# Altium footprint library QFP_Shrink_Rect_50P_Side_N.PcbLib: 15 footprints
Each footprint in its own frame and in the unit in brackets; x right, y up, seen from the top. Pads: shape width x height; smd on the part's side, far side on the other; paste and mask are expansions set on the pad; w line width, h text height; cw(c..) or ccw(c..) is an arc to the next point about the centre after c.
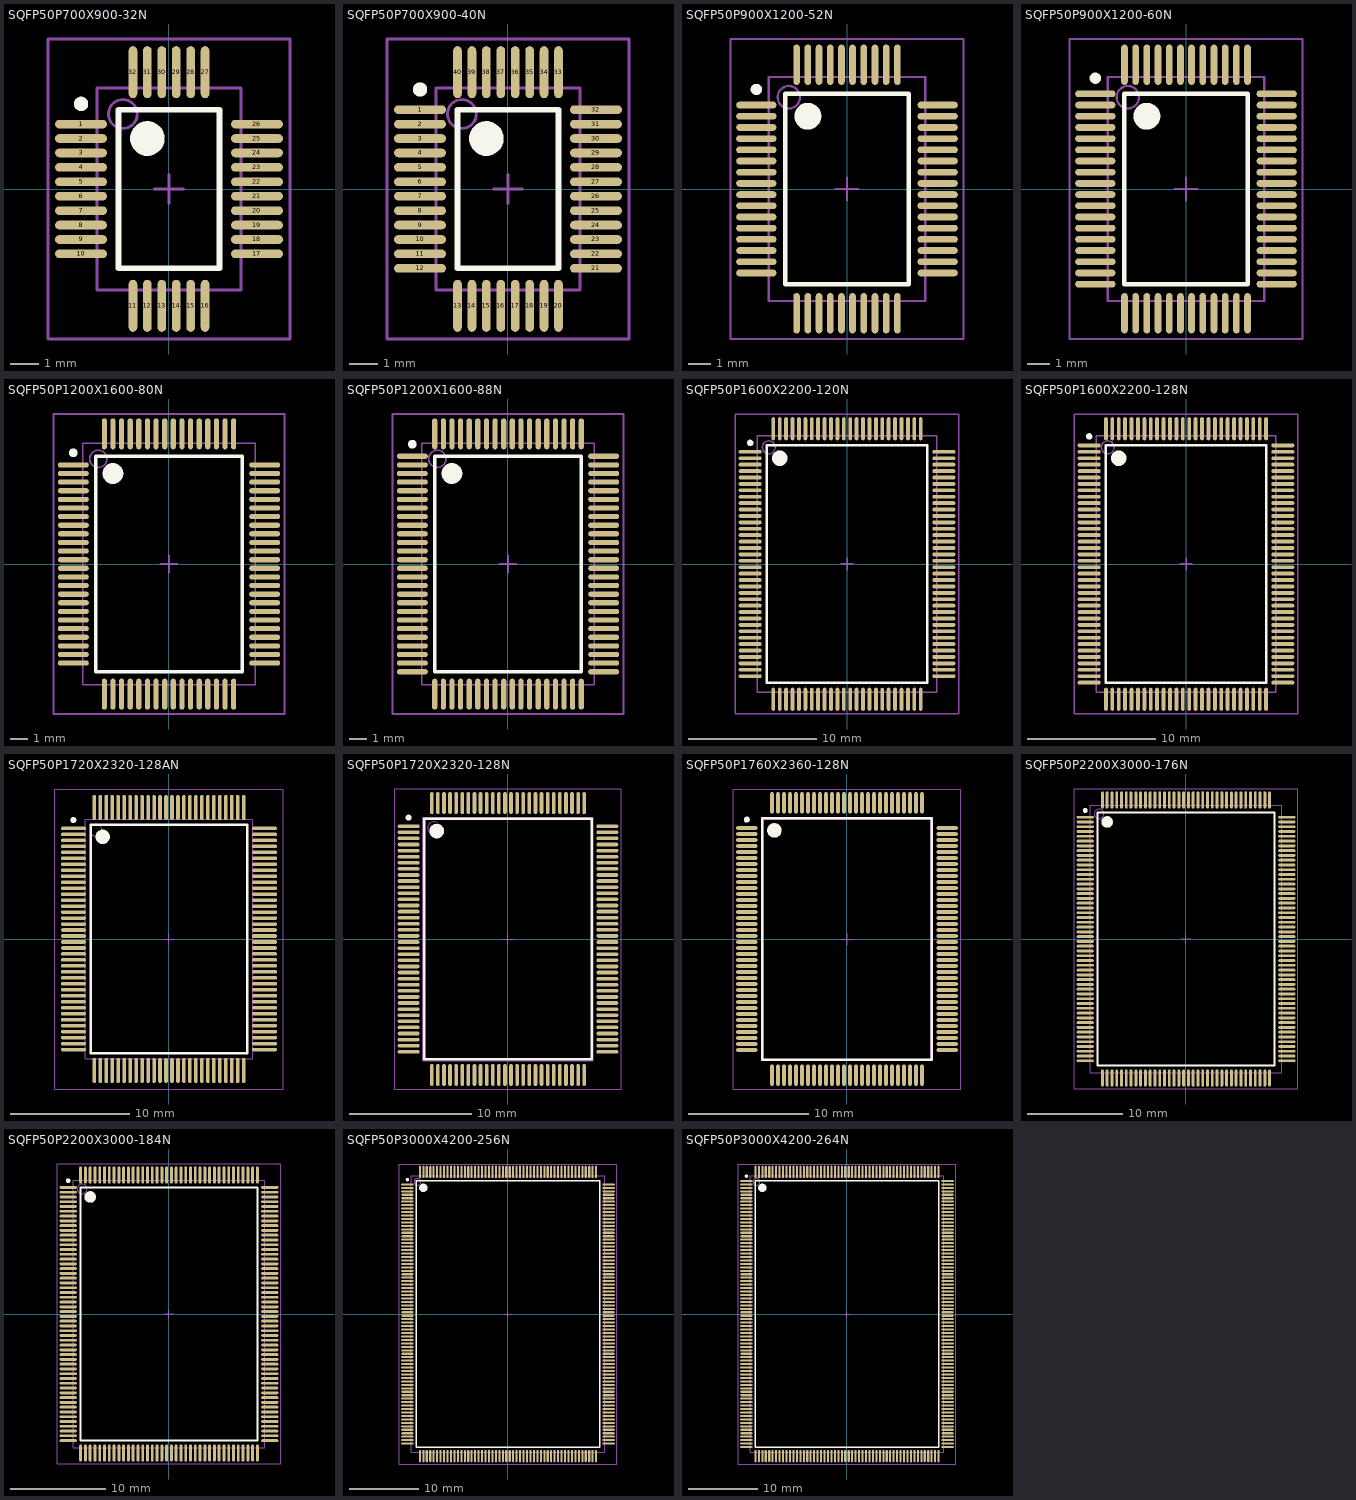
[diagram p0: the footprints below, top view; thin cyan lines are the x and y axes]

## SQFP50P700X900-32N [mm] "Shrink QFP, 32-Leads, Body 7x5 mm, Pitch 0.5mm, IPC Medium Density"
height 1.7
pads (32):
  oval 1.8x0.3 smd: 1(-3.05,2.25) 2(-3.05,1.75) 3(-3.05,1.25) 4(-3.05,0.75) 5(-3.05,0.25) 6(-3.05,-0.25) 7(-3.05,-0.75) 8(-3.05,-1.25) 9(-3.05,-1.75) 10(-3.05,-2.25) 17(3.05,-2.25) 18(3.05,-1.75) 19(3.05,-1.25) 20(3.05,-0.75) 21(3.05,-0.25) 22(3.05,0.25) 23(3.05,0.75) 24(3.05,1.25) 25(3.05,1.75) 26(3.05,2.25)
  oval 0.3x1.8 smd: 11(-1.25,-4.05) 12(-0.75,-4.05) 13(-0.25,-4.05) 14(0.25,-4.05) 15(0.75,-4.05) 16(1.25,-4.05) 27(1.25,4.05) 28(0.75,4.05) 29(0.25,4.05) 30(-0.25,4.05) 31(-0.75,4.05) 32(-1.25,4.05)
Top Overlay:
  circle w0.25: c-3.05,2.95 r0.125
  circle w0.6: c-0.75,1.75 r0.3
  lines w0.2: -1.75,-2.75 -1.75,2.75 1.75,2.75 1.75,-2.75 -1.75,-2.75
Mechanical 13:
  circle w0.1: c-1.6,2.6 r0.5
  lines w0.1: -2.5,-3.5 -2.5,3.5 2.5,3.5 2.5,-3.5 -2.5,-3.5
Mechanical 15:
  lines w0.1: -0.5,0 0.5,0 ; 0,-0.5 0,0.5 ; -4.2,-5.2 -4.2,5.2 4.2,5.2 4.2,-5.2 -4.2,-5.2
3D body: height 1.7, standoff 0, extent -2.5,-3.5 2.5,3.5

## SQFP50P700X900-40N [mm] "Shrink QFP, 40-Leads, Body 7x5 mm, Pitch 0.5mm, IPC Medium Density"
height 1.7
pads (40):
  oval 1.8x0.3 smd: 1(-3.05,2.75) 2(-3.05,2.25) 3(-3.05,1.75) 4(-3.05,1.25) 5(-3.05,0.75) 6(-3.05,0.25) 7(-3.05,-0.25) 8(-3.05,-0.75) 9(-3.05,-1.25) 10(-3.05,-1.75) 11(-3.05,-2.25) 12(-3.05,-2.75) 21(3.05,-2.75) 22(3.05,-2.25) 23(3.05,-1.75) 24(3.05,-1.25) 25(3.05,-0.75) 26(3.05,-0.25) 27(3.05,0.25) 28(3.05,0.75) 29(3.05,1.25) 30(3.05,1.75) 31(3.05,2.25) 32(3.05,2.75)
  oval 0.3x1.8 smd: 13(-1.75,-4.05) 14(-1.25,-4.05) 15(-0.75,-4.05) 16(-0.25,-4.05) 17(0.25,-4.05) 18(0.75,-4.05) 19(1.25,-4.05) 20(1.75,-4.05) 33(1.75,4.05) 34(1.25,4.05) 35(0.75,4.05) 36(0.25,4.05) 37(-0.25,4.05) 38(-0.75,4.05) 39(-1.25,4.05) 40(-1.75,4.05)
Top Overlay:
  circle w0.6: c-0.75,1.75 r0.3
  circle w0.25: c-3.05,3.45 r0.125
  lines w0.2: -1.75,-2.75 1.75,-2.75 1.75,2.75 -1.75,2.75 -1.75,-2.75
Mechanical 13:
  circle w0.1: c-1.6,2.6 r0.5
  lines w0.1: -2.5,-3.5 2.5,-3.5 2.5,3.5 -2.5,3.5 -2.5,-3.5
Mechanical 15:
  lines w0.1: -0.5,0 0.5,0 ; 0,-0.5 0,0.5 ; -4.2,-5.2 4.2,-5.2 4.2,5.2 -4.2,5.2 -4.2,-5.2
3D body: height 1.7, standoff 0, extent -2.5,-3.5 2.5,3.5

## SQFP50P900X1200-52N [mm] "Shrink QFP, 52-Leads, Body 10x7 mm, Pitch 0.5mm, IPC Medium Density"
height 2.2
pads (52):
  oval 1.8x0.3 smd: 1(-4.05,3.75) 2(-4.05,3.25) 3(-4.05,2.75) 4(-4.05,2.25) 5(-4.05,1.75) 6(-4.05,1.25) 7(-4.05,0.75) 8(-4.05,0.25) 9(-4.05,-0.25) 10(-4.05,-0.75) 11(-4.05,-1.25) 12(-4.05,-1.75) 13(-4.05,-2.25) 14(-4.05,-2.75) 15(-4.05,-3.25) 16(-4.05,-3.75) 27(4.05,-3.75) 28(4.05,-3.25) 29(4.05,-2.75) 30(4.05,-2.25) 31(4.05,-1.75) 32(4.05,-1.25) 33(4.05,-0.75) 34(4.05,-0.25) 35(4.05,0.25) 36(4.05,0.75) 37(4.05,1.25) 38(4.05,1.75) 39(4.05,2.25) 40(4.05,2.75) 41(4.05,3.25) 42(4.05,3.75)
  oval 0.3x1.8 smd: 17(-2.25,-5.55) 18(-1.75,-5.55) 19(-1.25,-5.55) 20(-0.75,-5.55) 21(-0.25,-5.55) 22(0.25,-5.55) 23(0.75,-5.55) 24(1.25,-5.55) 25(1.75,-5.55) 26(2.25,-5.55) 43(2.25,5.55) 44(1.75,5.55) 45(1.25,5.55) 46(0.75,5.55) 47(0.25,5.55) 48(-0.25,5.55) 49(-0.75,5.55) 50(-1.25,5.55) 51(-1.75,5.55) 52(-2.25,5.55)
Top Overlay:
  circle w0.6: c-1.75,3.25 r0.3
  circle w0.25: c-4.05,4.45 r0.125
  lines w0.2: -2.75,-4.25 2.75,-4.25 2.75,4.25 -2.75,4.25 -2.75,-4.25
Mechanical 13:
  circle w0.1: c-2.6,4.1 r0.5
  lines w0.1: -3.5,-5 3.5,-5 3.5,5 -3.5,5 -3.5,-5
Mechanical 15:
  lines w0.1: -0.5,0 0.5,0 ; 0,-0.5 0,0.5 ; -5.2,-6.7 5.2,-6.7 5.2,6.7 -5.2,6.7 -5.2,-6.7
3D body: height 2.2, standoff 0, extent -3.5,-5 3.5,5

## SQFP50P900X1200-60N [mm] "Shrink QFP, 60-Leads, Body 10x7 mm, Pitch 0.5mm, IPC Medium Density"
height 2.2
pads (60):
  oval 1.8x0.3 smd: 1(-4.05,4.25) 2(-4.05,3.75) 3(-4.05,3.25) 4(-4.05,2.75) 5(-4.05,2.25) 6(-4.05,1.75) 7(-4.05,1.25) 8(-4.05,0.75) 9(-4.05,0.25) 10(-4.05,-0.25) 11(-4.05,-0.75) 12(-4.05,-1.25) 13(-4.05,-1.75) 14(-4.05,-2.25) 15(-4.05,-2.75) 16(-4.05,-3.25) 17(-4.05,-3.75) 18(-4.05,-4.25) 31(4.05,-4.25) 32(4.05,-3.75) 33(4.05,-3.25) 34(4.05,-2.75) 35(4.05,-2.25) 36(4.05,-1.75) 37(4.05,-1.25) 38(4.05,-0.75) 39(4.05,-0.25) 40(4.05,0.25) 41(4.05,0.75) 42(4.05,1.25) 43(4.05,1.75) 44(4.05,2.25) 45(4.05,2.75) 46(4.05,3.25) 47(4.05,3.75) 48(4.05,4.25)
  oval 0.3x1.8 smd: 19(-2.75,-5.55) 20(-2.25,-5.55) 21(-1.75,-5.55) 22(-1.25,-5.55) 23(-0.75,-5.55) 24(-0.25,-5.55) 25(0.25,-5.55) 26(0.75,-5.55) 27(1.25,-5.55) 28(1.75,-5.55) 29(2.25,-5.55) 30(2.75,-5.55) 49(2.75,5.55) 50(2.25,5.55) 51(1.75,5.55) 52(1.25,5.55) 53(0.75,5.55) 54(0.25,5.55) 55(-0.25,5.55) 56(-0.75,5.55) 57(-1.25,5.55) 58(-1.75,5.55) 59(-2.25,5.55) 60(-2.75,5.55)
Top Overlay:
  circle w0.6: c-1.75,3.25 r0.3
  circle w0.25: c-4.05,4.95 r0.125
  lines w0.2: -2.75,-4.25 2.75,-4.25 2.75,4.25 -2.75,4.25 -2.75,-4.25
Mechanical 13:
  circle w0.1: c-2.6,4.1 r0.5
  lines w0.1: -3.5,-5 3.5,-5 3.5,5 -3.5,5 -3.5,-5
Mechanical 15:
  lines w0.1: -0.5,0 0.5,0 ; 0,-0.5 0,0.5 ; -5.2,-6.7 5.2,-6.7 5.2,6.7 -5.2,6.7 -5.2,-6.7
3D body: height 2.2, standoff 0, extent -3.5,-5 3.5,5

## SQFP50P1200X1600-80N [mm] "Shrink QFP, 80-Leads, Body 14x10 mm, Pitch 0.5mm, IPC Medium Density"
height 2.2
pads (80):
  oval 1.8x0.3 smd: 1(-5.55,5.75) 2(-5.55,5.25) 3(-5.55,4.75) 4(-5.55,4.25) 5(-5.55,3.75) 6(-5.55,3.25) 7(-5.55,2.75) 8(-5.55,2.25) 9(-5.55,1.75) 10(-5.55,1.25) 11(-5.55,0.75) 12(-5.55,0.25) 13(-5.55,-0.25) 14(-5.55,-0.75) 15(-5.55,-1.25) 16(-5.55,-1.75) 17(-5.55,-2.25) 18(-5.55,-2.75) 19(-5.55,-3.25) 20(-5.55,-3.75) 21(-5.55,-4.25) 22(-5.55,-4.75) 23(-5.55,-5.25) 24(-5.55,-5.75) 41(5.55,-5.75) 42(5.55,-5.25) 43(5.55,-4.75) 44(5.55,-4.25) 45(5.55,-3.75) 46(5.55,-3.25) 47(5.55,-2.75) 48(5.55,-2.25) 49(5.55,-1.75) 50(5.55,-1.25) 51(5.55,-0.75) 52(5.55,-0.25) 53(5.55,0.25) 54(5.55,0.75) 55(5.55,1.25) 56(5.55,1.75) 57(5.55,2.25) 58(5.55,2.75) 59(5.55,3.25) 60(5.55,3.75) 61(5.55,4.25) 62(5.55,4.75) 63(5.55,5.25) 64(5.55,5.75)
  oval 0.3x1.8 smd: 25(-3.75,-7.55) 26(-3.25,-7.55) 27(-2.75,-7.55) 28(-2.25,-7.55) 29(-1.75,-7.55) 30(-1.25,-7.55) 31(-0.75,-7.55) 32(-0.25,-7.55) 33(0.25,-7.55) 34(0.75,-7.55) 35(1.25,-7.55) 36(1.75,-7.55) 37(2.25,-7.55) 38(2.75,-7.55) 39(3.25,-7.55) 40(3.75,-7.55) 65(3.75,7.55) 66(3.25,7.55) 67(2.75,7.55) 68(2.25,7.55) 69(1.75,7.55) 70(1.25,7.55) 71(0.75,7.55) 72(0.25,7.55) 73(-0.25,7.55) 74(-0.75,7.55) 75(-1.25,7.55) 76(-1.75,7.55) 77(-2.25,7.55) 78(-2.75,7.55) 79(-3.25,7.55) 80(-3.75,7.55)
Top Overlay:
  circle w0.6: c-3.25,5.25 r0.3
  circle w0.25: c-5.55,6.45 r0.125
  lines w0.2: -4.25,-6.25 4.25,-6.25 4.25,6.25 -4.25,6.25 -4.25,-6.25
Mechanical 13:
  circle w0.1: c-4.1,6.1 r0.5
  lines w0.1: -5,-7 5,-7 5,7 -5,7 -5,-7
Mechanical 15:
  lines w0.1: -0.5,0 0.5,0 ; 0,-0.5 0,0.5 ; -6.7,-8.7 6.7,-8.7 6.7,8.7 -6.7,8.7 -6.7,-8.7
3D body: height 2.2, standoff 0, extent -5,-7 5,7

## SQFP50P1200X1600-88N [mm] "Shrink QFP, 88-Leads, Body 14x10 mm, Pitch 0.5mm, IPC Medium Density"
height 2.2
pads (88):
  oval 1.8x0.3 smd: 1(-5.55,6.25) 2(-5.55,5.75) 3(-5.55,5.25) 4(-5.55,4.75) 5(-5.55,4.25) 6(-5.55,3.75) 7(-5.55,3.25) 8(-5.55,2.75) 9(-5.55,2.25) 10(-5.55,1.75) 11(-5.55,1.25) 12(-5.55,0.75) 13(-5.55,0.25) 14(-5.55,-0.25) 15(-5.55,-0.75) 16(-5.55,-1.25) 17(-5.55,-1.75) 18(-5.55,-2.25) 19(-5.55,-2.75) 20(-5.55,-3.25) 21(-5.55,-3.75) 22(-5.55,-4.25) 23(-5.55,-4.75) 24(-5.55,-5.25) 25(-5.55,-5.75) 26(-5.55,-6.25) 45(5.55,-6.25) 46(5.55,-5.75) 47(5.55,-5.25) 48(5.55,-4.75) 49(5.55,-4.25) 50(5.55,-3.75) 51(5.55,-3.25) 52(5.55,-2.75) 53(5.55,-2.25) 54(5.55,-1.75) 55(5.55,-1.25) 56(5.55,-0.75) 57(5.55,-0.25) 58(5.55,0.25) 59(5.55,0.75) 60(5.55,1.25) 61(5.55,1.75) 62(5.55,2.25) 63(5.55,2.75) 64(5.55,3.25) 65(5.55,3.75) 66(5.55,4.25) 67(5.55,4.75) 68(5.55,5.25) 69(5.55,5.75) 70(5.55,6.25)
  oval 0.3x1.8 smd: 27(-4.25,-7.55) 28(-3.75,-7.55) 29(-3.25,-7.55) 30(-2.75,-7.55) 31(-2.25,-7.55) 32(-1.75,-7.55) 33(-1.25,-7.55) 34(-0.75,-7.55) 35(-0.25,-7.55) 36(0.25,-7.55) 37(0.75,-7.55) 38(1.25,-7.55) 39(1.75,-7.55) 40(2.25,-7.55) 41(2.75,-7.55) 42(3.25,-7.55) 43(3.75,-7.55) 44(4.25,-7.55) 71(4.25,7.55) 72(3.75,7.55) 73(3.25,7.55) 74(2.75,7.55) 75(2.25,7.55) 76(1.75,7.55) 77(1.25,7.55) 78(0.75,7.55) 79(0.25,7.55) 80(-0.25,7.55) 81(-0.75,7.55) 82(-1.25,7.55) 83(-1.75,7.55) 84(-2.25,7.55) 85(-2.75,7.55) 86(-3.25,7.55) 87(-3.75,7.55) 88(-4.25,7.55)
Top Overlay:
  circle w0.6: c-3.25,5.25 r0.3
  circle w0.25: c-5.55,6.95 r0.125
  lines w0.2: -4.25,-6.25 4.25,-6.25 4.25,6.25 -4.25,6.25 -4.25,-6.25
Mechanical 13:
  circle w0.1: c-4.1,6.1 r0.5
  lines w0.1: -5,-7 5,-7 5,7 -5,7 -5,-7
Mechanical 15:
  lines w0.1: -0.5,0 0.5,0 ; 0,-0.5 0,0.5 ; -6.7,-8.7 6.7,-8.7 6.7,8.7 -6.7,8.7 -6.7,-8.7
3D body: height 2.2, standoff 0, extent -5,-7 5,7

## SQFP50P1600X2200-120N [mm] "Shrink QFP, 120-Leads, Body 20x14 mm, Pitch 0.5mm, IPC Medium Density"
height 2.2
pads (120):
  oval 1.8x0.3 smd: 1(-7.55,8.75) 2(-7.55,8.25) 3(-7.55,7.75) 4(-7.55,7.25) 5(-7.55,6.75) 6(-7.55,6.25) 7(-7.55,5.75) 8(-7.55,5.25) 9(-7.55,4.75) 10(-7.55,4.25) 11(-7.55,3.75) 12(-7.55,3.25) 13(-7.55,2.75) 14(-7.55,2.25) 15(-7.55,1.75) 16(-7.55,1.25) 17(-7.55,0.75) 18(-7.55,0.25) 19(-7.55,-0.25) 20(-7.55,-0.75) 21(-7.55,-1.25) 22(-7.55,-1.75) 23(-7.55,-2.25) 24(-7.55,-2.75) 25(-7.55,-3.25) 26(-7.55,-3.75) 27(-7.55,-4.25) 28(-7.55,-4.75) 29(-7.55,-5.25) 30(-7.55,-5.75) 31(-7.55,-6.25) 32(-7.55,-6.75) 33(-7.55,-7.25) 34(-7.55,-7.75) 35(-7.55,-8.25) 36(-7.55,-8.75) 61(7.55,-8.75) 62(7.55,-8.25) 63(7.55,-7.75) 64(7.55,-7.25) 65(7.55,-6.75) 66(7.55,-6.25) 67(7.55,-5.75) 68(7.55,-5.25) 69(7.55,-4.75) 70(7.55,-4.25) 71(7.55,-3.75) 72(7.55,-3.25) 73(7.55,-2.75) 74(7.55,-2.25) 75(7.55,-1.75) 76(7.55,-1.25) 77(7.55,-0.75) 78(7.55,-0.25) 79(7.55,0.25) 80(7.55,0.75) 81(7.55,1.25) 82(7.55,1.75) 83(7.55,2.25) 84(7.55,2.75) 85(7.55,3.25) 86(7.55,3.75) 87(7.55,4.25) 88(7.55,4.75) 89(7.55,5.25) 90(7.55,5.75) 91(7.55,6.25) 92(7.55,6.75) 93(7.55,7.25) 94(7.55,7.75) 95(7.55,8.25) 96(7.55,8.75)
  oval 0.3x1.8 smd: 37(-5.75,-10.55) 38(-5.25,-10.55) 39(-4.75,-10.55) 40(-4.25,-10.55) 41(-3.75,-10.55) 42(-3.25,-10.55) 43(-2.75,-10.55) 44(-2.25,-10.55) 45(-1.75,-10.55) 46(-1.25,-10.55) 47(-0.75,-10.55) 48(-0.25,-10.55) 49(0.25,-10.55) 50(0.75,-10.55) 51(1.25,-10.55) 52(1.75,-10.55) 53(2.25,-10.55) 54(2.75,-10.55) 55(3.25,-10.55) 56(3.75,-10.55) 57(4.25,-10.55) 58(4.75,-10.55) 59(5.25,-10.55) 60(5.75,-10.55) 97(5.75,10.55) 98(5.25,10.55) 99(4.75,10.55) 100(4.25,10.55) 101(3.75,10.55) 102(3.25,10.55) 103(2.75,10.55) 104(2.25,10.55) 105(1.75,10.55) 106(1.25,10.55) 107(0.75,10.55) 108(0.25,10.55) 109(-0.25,10.55) 110(-0.75,10.55) 111(-1.25,10.55) 112(-1.75,10.55) 113(-2.25,10.55) 114(-2.75,10.55) 115(-3.25,10.55) 116(-3.75,10.55) 117(-4.25,10.55) 118(-4.75,10.55) 119(-5.25,10.55) 120(-5.75,10.55)
Top Overlay:
  circle w0.6: c-5.25,8.25 r0.3
  circle w0.25: c-7.55,9.45 r0.125
  lines w0.2: -6.25,-9.25 6.25,-9.25 6.25,9.25 -6.25,9.25 -6.25,-9.25
Mechanical 13:
  circle w0.1: c-6.1,9.1 r0.5
  lines w0.1: -7,-10 7,-10 7,10 -7,10 -7,-10
Mechanical 15:
  lines w0.1: -0.5,0 0.5,0 ; 0,-0.5 0,0.5 ; -8.7,-11.7 8.7,-11.7 8.7,11.7 -8.7,11.7 -8.7,-11.7
3D body: height 2.2, standoff 0, extent -7,-10 7,10

## SQFP50P1600X2200-128N [mm] "Shrink QFP, 128-Leads, Body 20x14 mm, Pitch 0.5mm, IPC Medium Density"
height 2.2
pads (128):
  oval 1.8x0.3 smd: 1(-7.55,9.25) 2(-7.55,8.75) 3(-7.55,8.25) 4(-7.55,7.75) 5(-7.55,7.25) 6(-7.55,6.75) 7(-7.55,6.25) 8(-7.55,5.75) 9(-7.55,5.25) 10(-7.55,4.75) 11(-7.55,4.25) 12(-7.55,3.75) 13(-7.55,3.25) 14(-7.55,2.75) 15(-7.55,2.25) 16(-7.55,1.75) 17(-7.55,1.25) 18(-7.55,0.75) 19(-7.55,0.25) 20(-7.55,-0.25) 21(-7.55,-0.75) 22(-7.55,-1.25) 23(-7.55,-1.75) 24(-7.55,-2.25) 25(-7.55,-2.75) 26(-7.55,-3.25) 27(-7.55,-3.75) 28(-7.55,-4.25) 29(-7.55,-4.75) 30(-7.55,-5.25) 31(-7.55,-5.75) 32(-7.55,-6.25) 33(-7.55,-6.75) 34(-7.55,-7.25) 35(-7.55,-7.75) 36(-7.55,-8.25) 37(-7.55,-8.75) 38(-7.55,-9.25) 65(7.55,-9.25) 66(7.55,-8.75) 67(7.55,-8.25) 68(7.55,-7.75) 69(7.55,-7.25) 70(7.55,-6.75) 71(7.55,-6.25) 72(7.55,-5.75) 73(7.55,-5.25) 74(7.55,-4.75) 75(7.55,-4.25) 76(7.55,-3.75) 77(7.55,-3.25) 78(7.55,-2.75) 79(7.55,-2.25) 80(7.55,-1.75) 81(7.55,-1.25) 82(7.55,-0.75) 83(7.55,-0.25) 84(7.55,0.25) 85(7.55,0.75) 86(7.55,1.25) 87(7.55,1.75) 88(7.55,2.25) 89(7.55,2.75) 90(7.55,3.25) 91(7.55,3.75) 92(7.55,4.25) 93(7.55,4.75) 94(7.55,5.25) 95(7.55,5.75) 96(7.55,6.25) 97(7.55,6.75) 98(7.55,7.25) 99(7.55,7.75) 100(7.55,8.25) 101(7.55,8.75) 102(7.55,9.25)
  oval 0.3x1.8 smd: 39(-6.25,-10.55) 40(-5.75,-10.55) 41(-5.25,-10.55) 42(-4.75,-10.55) 43(-4.25,-10.55) 44(-3.75,-10.55) 45(-3.25,-10.55) 46(-2.75,-10.55) 47(-2.25,-10.55) 48(-1.75,-10.55) 49(-1.25,-10.55) 50(-0.75,-10.55) 51(-0.25,-10.55) 52(0.25,-10.55) 53(0.75,-10.55) 54(1.25,-10.55) 55(1.75,-10.55) 56(2.25,-10.55) 57(2.75,-10.55) 58(3.25,-10.55) 59(3.75,-10.55) 60(4.25,-10.55) 61(4.75,-10.55) 62(5.25,-10.55) 63(5.75,-10.55) 64(6.25,-10.55) 103(6.25,10.55) 104(5.75,10.55) 105(5.25,10.55) 106(4.75,10.55) 107(4.25,10.55) 108(3.75,10.55) 109(3.25,10.55) 110(2.75,10.55) 111(2.25,10.55) 112(1.75,10.55) 113(1.25,10.55) 114(0.75,10.55) 115(0.25,10.55) 116(-0.25,10.55) 117(-0.75,10.55) 118(-1.25,10.55) 119(-1.75,10.55) 120(-2.25,10.55) 121(-2.75,10.55) 122(-3.25,10.55) 123(-3.75,10.55) 124(-4.25,10.55) 125(-4.75,10.55) 126(-5.25,10.55) 127(-5.75,10.55) 128(-6.25,10.55)
Top Overlay:
  circle w0.6: c-5.25,8.25 r0.3
  circle w0.25: c-7.55,9.95 r0.125
  lines w0.2: -6.25,-9.25 6.25,-9.25 6.25,9.25 -6.25,9.25 -6.25,-9.25
Mechanical 13:
  circle w0.1: c-6.1,9.1 r0.5
  lines w0.1: -7,-10 7,-10 7,10 -7,10 -7,-10
Mechanical 15:
  lines w0.1: -0.5,0 0.5,0 ; 0,-0.5 0,0.5 ; -8.7,-11.7 8.7,-11.7 8.7,11.7 -8.7,11.7 -8.7,-11.7
3D body: height 2.2, standoff 0, extent -7,-10 7,10

## SQFP50P1720X2320-128AN [mm] "Shrink QFP, 128-Leads, Body 20x14 mm, Pitch 0.5mm, IPC Medium Density"
height 3.26
pads (128):
  oval 2.1x0.3 smd: 1(-8,9.25) 2(-8,8.75) 3(-8,8.25) 4(-8,7.75) 5(-8,7.25) 6(-8,6.75) 7(-8,6.25) 8(-8,5.75) 9(-8,5.25) 10(-8,4.75) 11(-8,4.25) 12(-8,3.75) 13(-8,3.25) 14(-8,2.75) 15(-8,2.25) 16(-8,1.75) 17(-8,1.25) 18(-8,0.75) 19(-8,0.25) 20(-8,-0.25) 21(-8,-0.75) 22(-8,-1.25) 23(-8,-1.75) 24(-8,-2.25) 25(-8,-2.75) 26(-8,-3.25) 27(-8,-3.75) 28(-8,-4.25) 29(-8,-4.75) 30(-8,-5.25) 31(-8,-5.75) 32(-8,-6.25) 33(-8,-6.75) 34(-8,-7.25) 35(-8,-7.75) 36(-8,-8.25) 37(-8,-8.75) 38(-8,-9.25) 65(8,-9.25) 66(8,-8.75) 67(8,-8.25) 68(8,-7.75) 69(8,-7.25) 70(8,-6.75) 71(8,-6.25) 72(8,-5.75) 73(8,-5.25) 74(8,-4.75) 75(8,-4.25) 76(8,-3.75) 77(8,-3.25) 78(8,-2.75) 79(8,-2.25) 80(8,-1.75) 81(8,-1.25) 82(8,-0.75) 83(8,-0.25) 84(8,0.25) 85(8,0.75) 86(8,1.25) 87(8,1.75) 88(8,2.25) 89(8,2.75) 90(8,3.25) 91(8,3.75) 92(8,4.25) 93(8,4.75) 94(8,5.25) 95(8,5.75) 96(8,6.25) 97(8,6.75) 98(8,7.25) 99(8,7.75) 100(8,8.25) 101(8,8.75) 102(8,9.25)
  oval 0.3x2.1 smd: 39(-6.25,-11) 40(-5.75,-11) 41(-5.25,-11) 42(-4.75,-11) 43(-4.25,-11) 44(-3.75,-11) 45(-3.25,-11) 46(-2.75,-11) 47(-2.25,-11) 48(-1.75,-11) 49(-1.25,-11) 50(-0.75,-11) 51(-0.25,-11) 52(0.25,-11) 53(0.75,-11) 54(1.25,-11) 55(1.75,-11) 56(2.25,-11) 57(2.75,-11) 58(3.25,-11) 59(3.75,-11) 60(4.25,-11) 61(4.75,-11) 62(5.25,-11) 63(5.75,-11) 64(6.25,-11) 103(6.25,11) 104(5.75,11) 105(5.25,11) 106(4.75,11) 107(4.25,11) 108(3.75,11) 109(3.25,11) 110(2.75,11) 111(2.25,11) 112(1.75,11) 113(1.25,11) 114(0.75,11) 115(0.25,11) 116(-0.25,11) 117(-0.75,11) 118(-1.25,11) 119(-1.75,11) 120(-2.25,11) 121(-2.75,11) 122(-3.25,11) 123(-3.75,11) 124(-4.25,11) 125(-4.75,11) 126(-5.25,11) 127(-5.75,11) 128(-6.25,11)
Top Overlay:
  circle w0.25: c-8,9.95 r0.125
  circle w0.6: c-5.55,8.55 r0.3
  lines w0.2: -6.55,-9.55 -6.55,9.55 6.55,9.55 6.55,-9.55 -6.55,-9.55
Mechanical 13:
  circle w0.1: c-6.1,9.1 r0.5
  lines w0.1: -7,-10 -7,10 7,10 7,-10 -7,-10
Mechanical 15:
  lines w0.1: -0.5,0 0.5,0 ; 0,-0.5 0,0.5 ; -9.55,-12.55 -9.55,12.55 9.55,12.55 9.55,-12.55 -9.55,-12.55
3D body: height 3.26, standoff 0, extent -7,-10 7,10

## SQFP50P1720X2320-128N [mm] "Shrink QFP, 128-Leads, Body 20x14 mm, Pitch 0.5mm, IPC Medium Density"
height 3
pads (128):
  oval 1.8x0.3 smd: 1(-8.15,9.25) 2(-8.15,8.75) 3(-8.15,8.25) 4(-8.15,7.75) 5(-8.15,7.25) 6(-8.15,6.75) 7(-8.15,6.25) 8(-8.15,5.75) 9(-8.15,5.25) 10(-8.15,4.75) 11(-8.15,4.25) 12(-8.15,3.75) 13(-8.15,3.25) 14(-8.15,2.75) 15(-8.15,2.25) 16(-8.15,1.75) 17(-8.15,1.25) 18(-8.15,0.75) 19(-8.15,0.25) 20(-8.15,-0.25) 21(-8.15,-0.75) 22(-8.15,-1.25) 23(-8.15,-1.75) 24(-8.15,-2.25) 25(-8.15,-2.75) 26(-8.15,-3.25) 27(-8.15,-3.75) 28(-8.15,-4.25) 29(-8.15,-4.75) 30(-8.15,-5.25) 31(-8.15,-5.75) 32(-8.15,-6.25) 33(-8.15,-6.75) 34(-8.15,-7.25) 35(-8.15,-7.75) 36(-8.15,-8.25) 37(-8.15,-8.75) 38(-8.15,-9.25) 65(8.15,-9.25) 66(8.15,-8.75) 67(8.15,-8.25) 68(8.15,-7.75) 69(8.15,-7.25) 70(8.15,-6.75) 71(8.15,-6.25) 72(8.15,-5.75) 73(8.15,-5.25) 74(8.15,-4.75) 75(8.15,-4.25) 76(8.15,-3.75) 77(8.15,-3.25) 78(8.15,-2.75) 79(8.15,-2.25) 80(8.15,-1.75) 81(8.15,-1.25) 82(8.15,-0.75) 83(8.15,-0.25) 84(8.15,0.25) 85(8.15,0.75) 86(8.15,1.25) 87(8.15,1.75) 88(8.15,2.25) 89(8.15,2.75) 90(8.15,3.25) 91(8.15,3.75) 92(8.15,4.25) 93(8.15,4.75) 94(8.15,5.25) 95(8.15,5.75) 96(8.15,6.25) 97(8.15,6.75) 98(8.15,7.25) 99(8.15,7.75) 100(8.15,8.25) 101(8.15,8.75) 102(8.15,9.25)
  oval 0.3x1.8 smd: 39(-6.25,-11.15) 40(-5.75,-11.15) 41(-5.25,-11.15) 42(-4.75,-11.15) 43(-4.25,-11.15) 44(-3.75,-11.15) 45(-3.25,-11.15) 46(-2.75,-11.15) 47(-2.25,-11.15) 48(-1.75,-11.15) 49(-1.25,-11.15) 50(-0.75,-11.15) 51(-0.25,-11.15) 52(0.25,-11.15) 53(0.75,-11.15) 54(1.25,-11.15) 55(1.75,-11.15) 56(2.25,-11.15) 57(2.75,-11.15) 58(3.25,-11.15) 59(3.75,-11.15) 60(4.25,-11.15) 61(4.75,-11.15) 62(5.25,-11.15) 63(5.75,-11.15) 64(6.25,-11.15) 103(6.25,11.15) 104(5.75,11.15) 105(5.25,11.15) 106(4.75,11.15) 107(4.25,11.15) 108(3.75,11.15) 109(3.25,11.15) 110(2.75,11.15) 111(2.25,11.15) 112(1.75,11.15) 113(1.25,11.15) 114(0.75,11.15) 115(0.25,11.15) 116(-0.25,11.15) 117(-0.75,11.15) 118(-1.25,11.15) 119(-1.75,11.15) 120(-2.25,11.15) 121(-2.75,11.15) 122(-3.25,11.15) 123(-3.75,11.15) 124(-4.25,11.15) 125(-4.75,11.15) 126(-5.25,11.15) 127(-5.75,11.15) 128(-6.25,11.15)
Top Overlay:
  circle w0.6: c-5.85,8.85 r0.3
  circle w0.25: c-8.15,9.95 r0.125
  lines w0.2: -6.85,-9.85 6.85,-9.85 6.85,9.85 -6.85,9.85 -6.85,-9.85
Mechanical 13:
  circle w0.1: c-6.1,9.1 r0.5
  lines w0.1: -7,-10 7,-10 7,10 -7,10 -7,-10
Mechanical 15:
  lines w0.1: -0.5,0 0.5,0 ; 0,-0.5 0,0.5 ; -9.3,-12.3 9.3,-12.3 9.3,12.3 -9.3,12.3 -9.3,-12.3
3D body: height 3, standoff 0, extent -7,-10 7,10

## SQFP50P1760X2360-128N [mm] "Shrink QFP, 128-Leads, Body 20x14 mm, Pitch 0.5mm, IPC Medium Density"
height 2.7
pads (128):
  oval 1.8x0.3 smd: 1(-8.35,9.25) 2(-8.35,8.75) 3(-8.35,8.25) 4(-8.35,7.75) 5(-8.35,7.25) 6(-8.35,6.75) 7(-8.35,6.25) 8(-8.35,5.75) 9(-8.35,5.25) 10(-8.35,4.75) 11(-8.35,4.25) 12(-8.35,3.75) 13(-8.35,3.25) 14(-8.35,2.75) 15(-8.35,2.25) 16(-8.35,1.75) 17(-8.35,1.25) 18(-8.35,0.75) 19(-8.35,0.25) 20(-8.35,-0.25) 21(-8.35,-0.75) 22(-8.35,-1.25) 23(-8.35,-1.75) 24(-8.35,-2.25) 25(-8.35,-2.75) 26(-8.35,-3.25) 27(-8.35,-3.75) 28(-8.35,-4.25) 29(-8.35,-4.75) 30(-8.35,-5.25) 31(-8.35,-5.75) 32(-8.35,-6.25) 33(-8.35,-6.75) 34(-8.35,-7.25) 35(-8.35,-7.75) 36(-8.35,-8.25) 37(-8.35,-8.75) 38(-8.35,-9.25) 65(8.35,-9.25) 66(8.35,-8.75) 67(8.35,-8.25) 68(8.35,-7.75) 69(8.35,-7.25) 70(8.35,-6.75) 71(8.35,-6.25) 72(8.35,-5.75) 73(8.35,-5.25) 74(8.35,-4.75) 75(8.35,-4.25) 76(8.35,-3.75) 77(8.35,-3.25) 78(8.35,-2.75) 79(8.35,-2.25) 80(8.35,-1.75) 81(8.35,-1.25) 82(8.35,-0.75) 83(8.35,-0.25) 84(8.35,0.25) 85(8.35,0.75) 86(8.35,1.25) 87(8.35,1.75) 88(8.35,2.25) 89(8.35,2.75) 90(8.35,3.25) 91(8.35,3.75) 92(8.35,4.25) 93(8.35,4.75) 94(8.35,5.25) 95(8.35,5.75) 96(8.35,6.25) 97(8.35,6.75) 98(8.35,7.25) 99(8.35,7.75) 100(8.35,8.25) 101(8.35,8.75) 102(8.35,9.25)
  oval 0.3x1.8 smd: 39(-6.25,-11.35) 40(-5.75,-11.35) 41(-5.25,-11.35) 42(-4.75,-11.35) 43(-4.25,-11.35) 44(-3.75,-11.35) 45(-3.25,-11.35) 46(-2.75,-11.35) 47(-2.25,-11.35) 48(-1.75,-11.35) 49(-1.25,-11.35) 50(-0.75,-11.35) 51(-0.25,-11.35) 52(0.25,-11.35) 53(0.75,-11.35) 54(1.25,-11.35) 55(1.75,-11.35) 56(2.25,-11.35) 57(2.75,-11.35) 58(3.25,-11.35) 59(3.75,-11.35) 60(4.25,-11.35) 61(4.75,-11.35) 62(5.25,-11.35) 63(5.75,-11.35) 64(6.25,-11.35) 103(6.25,11.35) 104(5.75,11.35) 105(5.25,11.35) 106(4.75,11.35) 107(4.25,11.35) 108(3.75,11.35) 109(3.25,11.35) 110(2.75,11.35) 111(2.25,11.35) 112(1.75,11.35) 113(1.25,11.35) 114(0.75,11.35) 115(0.25,11.35) 116(-0.25,11.35) 117(-0.75,11.35) 118(-1.25,11.35) 119(-1.75,11.35) 120(-2.25,11.35) 121(-2.75,11.35) 122(-3.25,11.35) 123(-3.75,11.35) 124(-4.25,11.35) 125(-4.75,11.35) 126(-5.25,11.35) 127(-5.75,11.35) 128(-6.25,11.35)
Top Overlay:
  circle w0.6: c-6.05,9.05 r0.3
  circle w0.25: c-8.35,9.95 r0.125
  lines w0.2: -7.05,-10.05 7.05,-10.05 7.05,10.05 -7.05,10.05 -7.05,-10.05
Mechanical 13:
  circle w0.1: c-6.1,9.1 r0.5
  lines w0.1: -7,-10 7,-10 7,10 -7,10 -7,-10
Mechanical 15:
  lines w0.1: -0.5,0 0.5,0 ; 0,-0.5 0,0.5 ; -9.5,-12.5 9.5,-12.5 9.5,12.5 -9.5,12.5 -9.5,-12.5
3D body: height 2.7, standoff 0, extent -7,-10 7,10

## SQFP50P2200X3000-176N [mm] "Shrink QFP, 176-Leads, Body 28x20 mm, Pitch 0.5mm, IPC Medium Density"
height 3.75
pads (176):
  oval 1.8x0.3 smd: 1(-10.55,12.75) 2(-10.55,12.25) 3(-10.55,11.75) 4(-10.55,11.25) 5(-10.55,10.75) 6(-10.55,10.25) 7(-10.55,9.75) 8(-10.55,9.25) 9(-10.55,8.75) 10(-10.55,8.25) 11(-10.55,7.75) 12(-10.55,7.25) 13(-10.55,6.75) 14(-10.55,6.25) 15(-10.55,5.75) 16(-10.55,5.25) 17(-10.55,4.75) 18(-10.55,4.25) 19(-10.55,3.75) 20(-10.55,3.25) 21(-10.55,2.75) 22(-10.55,2.25) 23(-10.55,1.75) 24(-10.55,1.25) 25(-10.55,0.75) 26(-10.55,0.25) 27(-10.55,-0.25) 28(-10.55,-0.75) 29(-10.55,-1.25) 30(-10.55,-1.75) 31(-10.55,-2.25) 32(-10.55,-2.75) 33(-10.55,-3.25) 34(-10.55,-3.75) 35(-10.55,-4.25) 36(-10.55,-4.75) 37(-10.55,-5.25) 38(-10.55,-5.75) 39(-10.55,-6.25) 40(-10.55,-6.75) 41(-10.55,-7.25) 42(-10.55,-7.75) 43(-10.55,-8.25) 44(-10.55,-8.75) 45(-10.55,-9.25) 46(-10.55,-9.75) 47(-10.55,-10.25) 48(-10.55,-10.75) 49(-10.55,-11.25) 50(-10.55,-11.75) 51(-10.55,-12.25) 52(-10.55,-12.75) 89(10.55,-12.75) 90(10.55,-12.25) 91(10.55,-11.75) 92(10.55,-11.25) 93(10.55,-10.75) 94(10.55,-10.25) 95(10.55,-9.75) 96(10.55,-9.25) 97(10.55,-8.75) 98(10.55,-8.25) 99(10.55,-7.75) 100(10.55,-7.25) 101(10.55,-6.75) 102(10.55,-6.25) 103(10.55,-5.75) 104(10.55,-5.25) 105(10.55,-4.75) 106(10.55,-4.25) 107(10.55,-3.75) 108(10.55,-3.25) 109(10.55,-2.75) 110(10.55,-2.25) 111(10.55,-1.75) 112(10.55,-1.25) 113(10.55,-0.75) 114(10.55,-0.25) 115(10.55,0.25) 116(10.55,0.75) 117(10.55,1.25) 118(10.55,1.75) 119(10.55,2.25) 120(10.55,2.75) 121(10.55,3.25) 122(10.55,3.75) 123(10.55,4.25) 124(10.55,4.75) 125(10.55,5.25) 126(10.55,5.75) 127(10.55,6.25) 128(10.55,6.75) 129(10.55,7.25) 130(10.55,7.75) 131(10.55,8.25) 132(10.55,8.75) 133(10.55,9.25) 134(10.55,9.75) 135(10.55,10.25) 136(10.55,10.75) 137(10.55,11.25) 138(10.55,11.75) 139(10.55,12.25) 140(10.55,12.75)
  oval 0.3x1.8 smd: 53(-8.75,-14.55) 54(-8.25,-14.55) 55(-7.75,-14.55) 56(-7.25,-14.55) 57(-6.75,-14.55) 58(-6.25,-14.55) 59(-5.75,-14.55) 60(-5.25,-14.55) 61(-4.75,-14.55) 62(-4.25,-14.55) 63(-3.75,-14.55) 64(-3.25,-14.55) 65(-2.75,-14.55) 66(-2.25,-14.55) 67(-1.75,-14.55) 68(-1.25,-14.55) 69(-0.75,-14.55) 70(-0.25,-14.55) 71(0.25,-14.55) 72(0.75,-14.55) 73(1.25,-14.55) 74(1.75,-14.55) 75(2.25,-14.55) 76(2.75,-14.55) 77(3.25,-14.55) 78(3.75,-14.55) 79(4.25,-14.55) 80(4.75,-14.55) 81(5.25,-14.55) 82(5.75,-14.55) 83(6.25,-14.55) 84(6.75,-14.55) 85(7.25,-14.55) 86(7.75,-14.55) 87(8.25,-14.55) 88(8.75,-14.55) 141(8.75,14.55) 142(8.25,14.55) 143(7.75,14.55) 144(7.25,14.55) 145(6.75,14.55) 146(6.25,14.55) 147(5.75,14.55) 148(5.25,14.55) 149(4.75,14.55) 150(4.25,14.55) 151(3.75,14.55) 152(3.25,14.55) 153(2.75,14.55) 154(2.25,14.55) 155(1.75,14.55) 156(1.25,14.55) 157(0.75,14.55) 158(0.25,14.55) 159(-0.25,14.55) 160(-0.75,14.55) 161(-1.25,14.55) 162(-1.75,14.55) 163(-2.25,14.55) 164(-2.75,14.55) 165(-3.25,14.55) 166(-3.75,14.55) 167(-4.25,14.55) 168(-4.75,14.55) 169(-5.25,14.55) 170(-5.75,14.55) 171(-6.25,14.55) 172(-6.75,14.55) 173(-7.25,14.55) 174(-7.75,14.55) 175(-8.25,14.55) 176(-8.75,14.55)
Top Overlay:
  circle w0.6: c-8.25,12.25 r0.3
  circle w0.25: c-10.55,13.45 r0.125
  lines w0.2: -9.25,-13.25 9.25,-13.25 9.25,13.25 -9.25,13.25 -9.25,-13.25
Mechanical 13:
  circle w0.1: c-9.1,13.1 r0.5
  lines w0.1: -10,-14 10,-14 10,14 -10,14 -10,-14
Mechanical 15:
  lines w0.1: -0.5,0 0.5,0 ; 0,-0.5 0,0.5 ; -11.7,-15.7 11.7,-15.7 11.7,15.7 -11.7,15.7 -11.7,-15.7
3D body: height 3.75, standoff 0, extent -10,-14 10,14

## SQFP50P2200X3000-184N [mm] "Shrink QFP, 184-Leads, Body 28x20 mm, Pitch 0.5mm, IPC Medium Density"
height 3.75
pads (184):
  oval 1.8x0.3 smd: 1(-10.55,13.25) 2(-10.55,12.75) 3(-10.55,12.25) 4(-10.55,11.75) 5(-10.55,11.25) 6(-10.55,10.75) 7(-10.55,10.25) 8(-10.55,9.75) 9(-10.55,9.25) 10(-10.55,8.75) 11(-10.55,8.25) 12(-10.55,7.75) 13(-10.55,7.25) 14(-10.55,6.75) 15(-10.55,6.25) 16(-10.55,5.75) 17(-10.55,5.25) 18(-10.55,4.75) 19(-10.55,4.25) 20(-10.55,3.75) 21(-10.55,3.25) 22(-10.55,2.75) 23(-10.55,2.25) 24(-10.55,1.75) 25(-10.55,1.25) 26(-10.55,0.75) 27(-10.55,0.25) 28(-10.55,-0.25) 29(-10.55,-0.75) 30(-10.55,-1.25) 31(-10.55,-1.75) 32(-10.55,-2.25) 33(-10.55,-2.75) 34(-10.55,-3.25) 35(-10.55,-3.75) 36(-10.55,-4.25) 37(-10.55,-4.75) 38(-10.55,-5.25) 39(-10.55,-5.75) 40(-10.55,-6.25) 41(-10.55,-6.75) 42(-10.55,-7.25) 43(-10.55,-7.75) 44(-10.55,-8.25) 45(-10.55,-8.75) 46(-10.55,-9.25) 47(-10.55,-9.75) 48(-10.55,-10.25) 49(-10.55,-10.75) 50(-10.55,-11.25) 51(-10.55,-11.75) 52(-10.55,-12.25) 53(-10.55,-12.75) 54(-10.55,-13.25) 93(10.55,-13.25) 94(10.55,-12.75) 95(10.55,-12.25) 96(10.55,-11.75) 97(10.55,-11.25) 98(10.55,-10.75) 99(10.55,-10.25) 100(10.55,-9.75) 101(10.55,-9.25) 102(10.55,-8.75) 103(10.55,-8.25) 104(10.55,-7.75) 105(10.55,-7.25) 106(10.55,-6.75) 107(10.55,-6.25) 108(10.55,-5.75) 109(10.55,-5.25) 110(10.55,-4.75) 111(10.55,-4.25) 112(10.55,-3.75) 113(10.55,-3.25) 114(10.55,-2.75) 115(10.55,-2.25) 116(10.55,-1.75) 117(10.55,-1.25) 118(10.55,-0.75) 119(10.55,-0.25) 120(10.55,0.25) 121(10.55,0.75) 122(10.55,1.25) 123(10.55,1.75) 124(10.55,2.25) 125(10.55,2.75) 126(10.55,3.25) 127(10.55,3.75) 128(10.55,4.25) 129(10.55,4.75) 130(10.55,5.25) 131(10.55,5.75) 132(10.55,6.25) 133(10.55,6.75) 134(10.55,7.25) 135(10.55,7.75) 136(10.55,8.25) 137(10.55,8.75) 138(10.55,9.25) 139(10.55,9.75) 140(10.55,10.25) 141(10.55,10.75) 142(10.55,11.25) 143(10.55,11.75) 144(10.55,12.25) 145(10.55,12.75) 146(10.55,13.25)
  oval 0.3x1.8 smd: 55(-9.25,-14.55) 56(-8.75,-14.55) 57(-8.25,-14.55) 58(-7.75,-14.55) 59(-7.25,-14.55) 60(-6.75,-14.55) 61(-6.25,-14.55) 62(-5.75,-14.55) 63(-5.25,-14.55) 64(-4.75,-14.55) 65(-4.25,-14.55) 66(-3.75,-14.55) 67(-3.25,-14.55) 68(-2.75,-14.55) 69(-2.25,-14.55) 70(-1.75,-14.55) 71(-1.25,-14.55) 72(-0.75,-14.55) 73(-0.25,-14.55) 74(0.25,-14.55) 75(0.75,-14.55) 76(1.25,-14.55) 77(1.75,-14.55) 78(2.25,-14.55) 79(2.75,-14.55) 80(3.25,-14.55) 81(3.75,-14.55) 82(4.25,-14.55) 83(4.75,-14.55) 84(5.25,-14.55) 85(5.75,-14.55) 86(6.25,-14.55) 87(6.75,-14.55) 88(7.25,-14.55) 89(7.75,-14.55) 90(8.25,-14.55) 91(8.75,-14.55) 92(9.25,-14.55) 147(9.25,14.55) 148(8.75,14.55) 149(8.25,14.55) 150(7.75,14.55) 151(7.25,14.55) 152(6.75,14.55) 153(6.25,14.55) 154(5.75,14.55) 155(5.25,14.55) 156(4.75,14.55) 157(4.25,14.55) 158(3.75,14.55) 159(3.25,14.55) 160(2.75,14.55) 161(2.25,14.55) 162(1.75,14.55) 163(1.25,14.55) 164(0.75,14.55) 165(0.25,14.55) 166(-0.25,14.55) 167(-0.75,14.55) 168(-1.25,14.55) 169(-1.75,14.55) 170(-2.25,14.55) 171(-2.75,14.55) 172(-3.25,14.55) 173(-3.75,14.55) 174(-4.25,14.55) 175(-4.75,14.55) 176(-5.25,14.55) 177(-5.75,14.55) 178(-6.25,14.55) 179(-6.75,14.55) 180(-7.25,14.55) 181(-7.75,14.55) 182(-8.25,14.55) 183(-8.75,14.55) 184(-9.25,14.55)
Top Overlay:
  circle w0.6: c-8.25,12.25 r0.3
  circle w0.25: c-10.55,13.95 r0.125
  lines w0.2: -9.25,-13.25 9.25,-13.25 9.25,13.25 -9.25,13.25 -9.25,-13.25
Mechanical 13:
  circle w0.1: c-9.1,13.1 r0.5
  lines w0.1: -10,-14 10,-14 10,14 -10,14 -10,-14
Mechanical 15:
  lines w0.1: -0.5,0 0.5,0 ; 0,-0.5 0,0.5 ; -11.7,-15.7 11.7,-15.7 11.7,15.7 -11.7,15.7 -11.7,-15.7
3D body: height 3.75, standoff 0, extent -10,-14 10,14

## SQFP50P3000X4200-256N [mm] "Shrink QFP, 256-Leads, Body 40x28 mm, Pitch 0.5mm, IPC Medium Density"
height 4.2
pads (256):
  oval 1.8x0.3 smd: 1(-14.55,18.75) 2(-14.55,18.25) 3(-14.55,17.75) 4(-14.55,17.25) 5(-14.55,16.75) 6(-14.55,16.25) 7(-14.55,15.75) 8(-14.55,15.25) 9(-14.55,14.75) 10(-14.55,14.25) 11(-14.55,13.75) 12(-14.55,13.25) 13(-14.55,12.75) 14(-14.55,12.25) 15(-14.55,11.75) 16(-14.55,11.25) 17(-14.55,10.75) 18(-14.55,10.25) 19(-14.55,9.75) 20(-14.55,9.25) 21(-14.55,8.75) 22(-14.55,8.25) 23(-14.55,7.75) 24(-14.55,7.25) 25(-14.55,6.75) 26(-14.55,6.25) 27(-14.55,5.75) 28(-14.55,5.25) 29(-14.55,4.75) 30(-14.55,4.25) 31(-14.55,3.75) 32(-14.55,3.25) 33(-14.55,2.75) 34(-14.55,2.25) 35(-14.55,1.75) 36(-14.55,1.25) 37(-14.55,0.75) 38(-14.55,0.25) 39(-14.55,-0.25) 40(-14.55,-0.75) 41(-14.55,-1.25) 42(-14.55,-1.75) 43(-14.55,-2.25) 44(-14.55,-2.75) 45(-14.55,-3.25) 46(-14.55,-3.75) 47(-14.55,-4.25) 48(-14.55,-4.75) 49(-14.55,-5.25) 50(-14.55,-5.75) 51(-14.55,-6.25) 52(-14.55,-6.75) 53(-14.55,-7.25) 54(-14.55,-7.75) 55(-14.55,-8.25) 56(-14.55,-8.75) 57(-14.55,-9.25) 58(-14.55,-9.75) 59(-14.55,-10.25) 60(-14.55,-10.75) 61(-14.55,-11.25) 62(-14.55,-11.75) 63(-14.55,-12.25) 64(-14.55,-12.75) 65(-14.55,-13.25) 66(-14.55,-13.75) 67(-14.55,-14.25) 68(-14.55,-14.75) 69(-14.55,-15.25) 70(-14.55,-15.75) 71(-14.55,-16.25) 72(-14.55,-16.75) 73(-14.55,-17.25) 74(-14.55,-17.75) 75(-14.55,-18.25) 76(-14.55,-18.75) 129(14.55,-18.75) 130(14.55,-18.25) 131(14.55,-17.75) 132(14.55,-17.25) 133(14.55,-16.75) 134(14.55,-16.25) 135(14.55,-15.75) 136(14.55,-15.25) 137(14.55,-14.75) 138(14.55,-14.25) 139(14.55,-13.75) 140(14.55,-13.25) 141(14.55,-12.75) 142(14.55,-12.25) 143(14.55,-11.75) 144(14.55,-11.25) 145(14.55,-10.75) 146(14.55,-10.25) 147(14.55,-9.75) 148(14.55,-9.25) 149(14.55,-8.75) 150(14.55,-8.25) 151(14.55,-7.75) 152(14.55,-7.25) 153(14.55,-6.75) 154(14.55,-6.25) 155(14.55,-5.75) 156(14.55,-5.25) 157(14.55,-4.75) 158(14.55,-4.25) 159(14.55,-3.75) 160(14.55,-3.25) 161(14.55,-2.75) 162(14.55,-2.25) 163(14.55,-1.75) 164(14.55,-1.25) 165(14.55,-0.75) 166(14.55,-0.25) 167(14.55,0.25) 168(14.55,0.75) 169(14.55,1.25) 170(14.55,1.75) 171(14.55,2.25) 172(14.55,2.75) 173(14.55,3.25) 174(14.55,3.75) 175(14.55,4.25) 176(14.55,4.75) 177(14.55,5.25) 178(14.55,5.75) 179(14.55,6.25) 180(14.55,6.75) 181(14.55,7.25) 182(14.55,7.75) 183(14.55,8.25) 184(14.55,8.75) 185(14.55,9.25) 186(14.55,9.75) 187(14.55,10.25) 188(14.55,10.75) 189(14.55,11.25) 190(14.55,11.75) 191(14.55,12.25) 192(14.55,12.75) 193(14.55,13.25) 194(14.55,13.75) 195(14.55,14.25) 196(14.55,14.75) 197(14.55,15.25) 198(14.55,15.75) 199(14.55,16.25) 200(14.55,16.75) 201(14.55,17.25) 202(14.55,17.75) 203(14.55,18.25) 204(14.55,18.75)
  oval 0.3x1.8 smd: 77(-12.75,-20.55) 78(-12.25,-20.55) 79(-11.75,-20.55) 80(-11.25,-20.55) 81(-10.75,-20.55) 82(-10.25,-20.55) 83(-9.75,-20.55) 84(-9.25,-20.55) 85(-8.75,-20.55) 86(-8.25,-20.55) 87(-7.75,-20.55) 88(-7.25,-20.55) 89(-6.75,-20.55) 90(-6.25,-20.55) 91(-5.75,-20.55) 92(-5.25,-20.55) 93(-4.75,-20.55) 94(-4.25,-20.55) 95(-3.75,-20.55) 96(-3.25,-20.55) 97(-2.75,-20.55) 98(-2.25,-20.55) 99(-1.75,-20.55) 100(-1.25,-20.55) 101(-0.75,-20.55) 102(-0.25,-20.55) 103(0.25,-20.55) 104(0.75,-20.55) 105(1.25,-20.55) 106(1.75,-20.55) 107(2.25,-20.55) 108(2.75,-20.55) 109(3.25,-20.55) 110(3.75,-20.55) 111(4.25,-20.55) 112(4.75,-20.55) 113(5.25,-20.55) 114(5.75,-20.55) 115(6.25,-20.55) 116(6.75,-20.55) 117(7.25,-20.55) 118(7.75,-20.55) 119(8.25,-20.55) 120(8.75,-20.55) 121(9.25,-20.55) 122(9.75,-20.55) 123(10.25,-20.55) 124(10.75,-20.55) 125(11.25,-20.55) 126(11.75,-20.55) 127(12.25,-20.55) 128(12.75,-20.55) 205(12.75,20.55) 206(12.25,20.55) 207(11.75,20.55) 208(11.25,20.55) 209(10.75,20.55) 210(10.25,20.55) 211(9.75,20.55) 212(9.25,20.55) 213(8.75,20.55) 214(8.25,20.55) 215(7.75,20.55) 216(7.25,20.55) 217(6.75,20.55) 218(6.25,20.55) 219(5.75,20.55) 220(5.25,20.55) 221(4.75,20.55) 222(4.25,20.55) 223(3.75,20.55) 224(3.25,20.55) 225(2.75,20.55) 226(2.25,20.55) 227(1.75,20.55) 228(1.25,20.55) 229(0.75,20.55) 230(0.25,20.55) 231(-0.25,20.55) 232(-0.75,20.55) 233(-1.25,20.55) 234(-1.75,20.55) 235(-2.25,20.55) 236(-2.75,20.55) 237(-3.25,20.55) 238(-3.75,20.55) 239(-4.25,20.55) 240(-4.75,20.55) 241(-5.25,20.55) 242(-5.75,20.55) 243(-6.25,20.55) 244(-6.75,20.55) 245(-7.25,20.55) 246(-7.75,20.55) 247(-8.25,20.55) 248(-8.75,20.55) 249(-9.25,20.55) 250(-9.75,20.55) 251(-10.25,20.55) 252(-10.75,20.55) 253(-11.25,20.55) 254(-11.75,20.55) 255(-12.25,20.55) 256(-12.75,20.55)
Top Overlay:
  circle w0.6: c-12.25,18.25 r0.3
  circle w0.25: c-14.55,19.45 r0.125
  lines w0.2: -13.25,-19.25 13.25,-19.25 13.25,19.25 -13.25,19.25 -13.25,-19.25
Mechanical 13:
  circle w0.1: c-13.1,19.1 r0.5
  lines w0.1: -14,-20 14,-20 14,20 -14,20 -14,-20
Mechanical 15:
  lines w0.1: -0.5,0 0.5,0 ; 0,-0.5 0,0.5 ; -15.7,-21.7 15.7,-21.7 15.7,21.7 -15.7,21.7 -15.7,-21.7
3D body: height 4.2, standoff 0, extent -14,-20 14,20

## SQFP50P3000X4200-264N [mm] "Shrink QFP, 264-Leads, Body 40x28 mm, Pitch 0.5mm, IPC Medium Density"
height 4.2
pads (264):
  oval 1.8x0.3 smd: 1(-14.55,19.25) 2(-14.55,18.75) 3(-14.55,18.25) 4(-14.55,17.75) 5(-14.55,17.25) 6(-14.55,16.75) 7(-14.55,16.25) 8(-14.55,15.75) 9(-14.55,15.25) 10(-14.55,14.75) 11(-14.55,14.25) 12(-14.55,13.75) 13(-14.55,13.25) 14(-14.55,12.75) 15(-14.55,12.25) 16(-14.55,11.75) 17(-14.55,11.25) 18(-14.55,10.75) 19(-14.55,10.25) 20(-14.55,9.75) 21(-14.55,9.25) 22(-14.55,8.75) 23(-14.55,8.25) 24(-14.55,7.75) 25(-14.55,7.25) 26(-14.55,6.75) 27(-14.55,6.25) 28(-14.55,5.75) 29(-14.55,5.25) 30(-14.55,4.75) 31(-14.55,4.25) 32(-14.55,3.75) 33(-14.55,3.25) 34(-14.55,2.75) 35(-14.55,2.25) 36(-14.55,1.75) 37(-14.55,1.25) 38(-14.55,0.75) 39(-14.55,0.25) 40(-14.55,-0.25) 41(-14.55,-0.75) 42(-14.55,-1.25) 43(-14.55,-1.75) 44(-14.55,-2.25) 45(-14.55,-2.75) 46(-14.55,-3.25) 47(-14.55,-3.75) 48(-14.55,-4.25) 49(-14.55,-4.75) 50(-14.55,-5.25) 51(-14.55,-5.75) 52(-14.55,-6.25) 53(-14.55,-6.75) 54(-14.55,-7.25) 55(-14.55,-7.75) 56(-14.55,-8.25) 57(-14.55,-8.75) 58(-14.55,-9.25) 59(-14.55,-9.75) 60(-14.55,-10.25) 61(-14.55,-10.75) 62(-14.55,-11.25) 63(-14.55,-11.75) 64(-14.55,-12.25) 65(-14.55,-12.75) 66(-14.55,-13.25) 67(-14.55,-13.75) 68(-14.55,-14.25) 69(-14.55,-14.75) 70(-14.55,-15.25) 71(-14.55,-15.75) 72(-14.55,-16.25) 73(-14.55,-16.75) 74(-14.55,-17.25) 75(-14.55,-17.75) 76(-14.55,-18.25) 77(-14.55,-18.75) 78(-14.55,-19.25) 133(14.55,-19.25) 134(14.55,-18.75) 135(14.55,-18.25) 136(14.55,-17.75) 137(14.55,-17.25) 138(14.55,-16.75) 139(14.55,-16.25) 140(14.55,-15.75) 141(14.55,-15.25) 142(14.55,-14.75) 143(14.55,-14.25) 144(14.55,-13.75) 145(14.55,-13.25) 146(14.55,-12.75) 147(14.55,-12.25) 148(14.55,-11.75) 149(14.55,-11.25) 150(14.55,-10.75) 151(14.55,-10.25) 152(14.55,-9.75) 153(14.55,-9.25) 154(14.55,-8.75) 155(14.55,-8.25) 156(14.55,-7.75) 157(14.55,-7.25) 158(14.55,-6.75) 159(14.55,-6.25) 160(14.55,-5.75) 161(14.55,-5.25) 162(14.55,-4.75) 163(14.55,-4.25) 164(14.55,-3.75) 165(14.55,-3.25) 166(14.55,-2.75) 167(14.55,-2.25) 168(14.55,-1.75) 169(14.55,-1.25) 170(14.55,-0.75) 171(14.55,-0.25) 172(14.55,0.25) 173(14.55,0.75) 174(14.55,1.25) 175(14.55,1.75) 176(14.55,2.25) 177(14.55,2.75) 178(14.55,3.25) 179(14.55,3.75) 180(14.55,4.25) 181(14.55,4.75) 182(14.55,5.25) 183(14.55,5.75) 184(14.55,6.25) 185(14.55,6.75) 186(14.55,7.25) 187(14.55,7.75) 188(14.55,8.25) 189(14.55,8.75) 190(14.55,9.25) 191(14.55,9.75) 192(14.55,10.25) 193(14.55,10.75) 194(14.55,11.25) 195(14.55,11.75) 196(14.55,12.25) 197(14.55,12.75) 198(14.55,13.25) 199(14.55,13.75) 200(14.55,14.25) 201(14.55,14.75) 202(14.55,15.25) 203(14.55,15.75) 204(14.55,16.25) 205(14.55,16.75) 206(14.55,17.25) 207(14.55,17.75) 208(14.55,18.25) 209(14.55,18.75) 210(14.55,19.25)
  oval 0.3x1.8 smd: 79(-13.25,-20.55) 80(-12.75,-20.55) 81(-12.25,-20.55) 82(-11.75,-20.55) 83(-11.25,-20.55) 84(-10.75,-20.55) 85(-10.25,-20.55) 86(-9.75,-20.55) 87(-9.25,-20.55) 88(-8.75,-20.55) 89(-8.25,-20.55) 90(-7.75,-20.55) 91(-7.25,-20.55) 92(-6.75,-20.55) 93(-6.25,-20.55) 94(-5.75,-20.55) 95(-5.25,-20.55) 96(-4.75,-20.55) 97(-4.25,-20.55) 98(-3.75,-20.55) 99(-3.25,-20.55) 100(-2.75,-20.55) 101(-2.25,-20.55) 102(-1.75,-20.55) 103(-1.25,-20.55) 104(-0.75,-20.55) 105(-0.25,-20.55) 106(0.25,-20.55) 107(0.75,-20.55) 108(1.25,-20.55) 109(1.75,-20.55) 110(2.25,-20.55) 111(2.75,-20.55) 112(3.25,-20.55) 113(3.75,-20.55) 114(4.25,-20.55) 115(4.75,-20.55) 116(5.25,-20.55) 117(5.75,-20.55) 118(6.25,-20.55) 119(6.75,-20.55) 120(7.25,-20.55) 121(7.75,-20.55) 122(8.25,-20.55) 123(8.75,-20.55) 124(9.25,-20.55) 125(9.75,-20.55) 126(10.25,-20.55) 127(10.75,-20.55) 128(11.25,-20.55) 129(11.75,-20.55) 130(12.25,-20.55) 131(12.75,-20.55) 132(13.25,-20.55) 211(13.25,20.55) 212(12.75,20.55) 213(12.25,20.55) 214(11.75,20.55) 215(11.25,20.55) 216(10.75,20.55) 217(10.25,20.55) 218(9.75,20.55) 219(9.25,20.55) 220(8.75,20.55) 221(8.25,20.55) 222(7.75,20.55) 223(7.25,20.55) 224(6.75,20.55) 225(6.25,20.55) 226(5.75,20.55) 227(5.25,20.55) 228(4.75,20.55) 229(4.25,20.55) 230(3.75,20.55) 231(3.25,20.55) 232(2.75,20.55) 233(2.25,20.55) 234(1.75,20.55) 235(1.25,20.55) 236(0.75,20.55) 237(0.25,20.55) 238(-0.25,20.55) 239(-0.75,20.55) 240(-1.25,20.55) 241(-1.75,20.55) 242(-2.25,20.55) 243(-2.75,20.55) 244(-3.25,20.55) 245(-3.75,20.55) 246(-4.25,20.55) 247(-4.75,20.55) 248(-5.25,20.55) 249(-5.75,20.55) 250(-6.25,20.55) 251(-6.75,20.55) 252(-7.25,20.55) 253(-7.75,20.55) 254(-8.25,20.55) 255(-8.75,20.55) 256(-9.25,20.55) 257(-9.75,20.55) 258(-10.25,20.55) 259(-10.75,20.55) 260(-11.25,20.55) 261(-11.75,20.55) 262(-12.25,20.55) 263(-12.75,20.55) 264(-13.25,20.55)
Top Overlay:
  circle w0.6: c-12.25,18.25 r0.3
  circle w0.25: c-14.55,19.95 r0.125
  lines w0.2: -13.25,-19.25 13.25,-19.25 13.25,19.25 -13.25,19.25 -13.25,-19.25
Mechanical 13:
  circle w0.1: c-13.1,19.1 r0.5
  lines w0.1: -14,-20 14,-20 14,20 -14,20 -14,-20
Mechanical 15:
  lines w0.1: -0.5,0 0.5,0 ; 0,-0.5 0,0.5 ; -15.7,-21.7 15.7,-21.7 15.7,21.7 -15.7,21.7 -15.7,-21.7
3D body: height 4.2, standoff 0, extent -14,-20 14,20